# Altium integrated library AutoLidar_VIP_Spring25.IntLib: 50 symbols
Pins are listed as number, name and electrical type; pins without a type are passive.

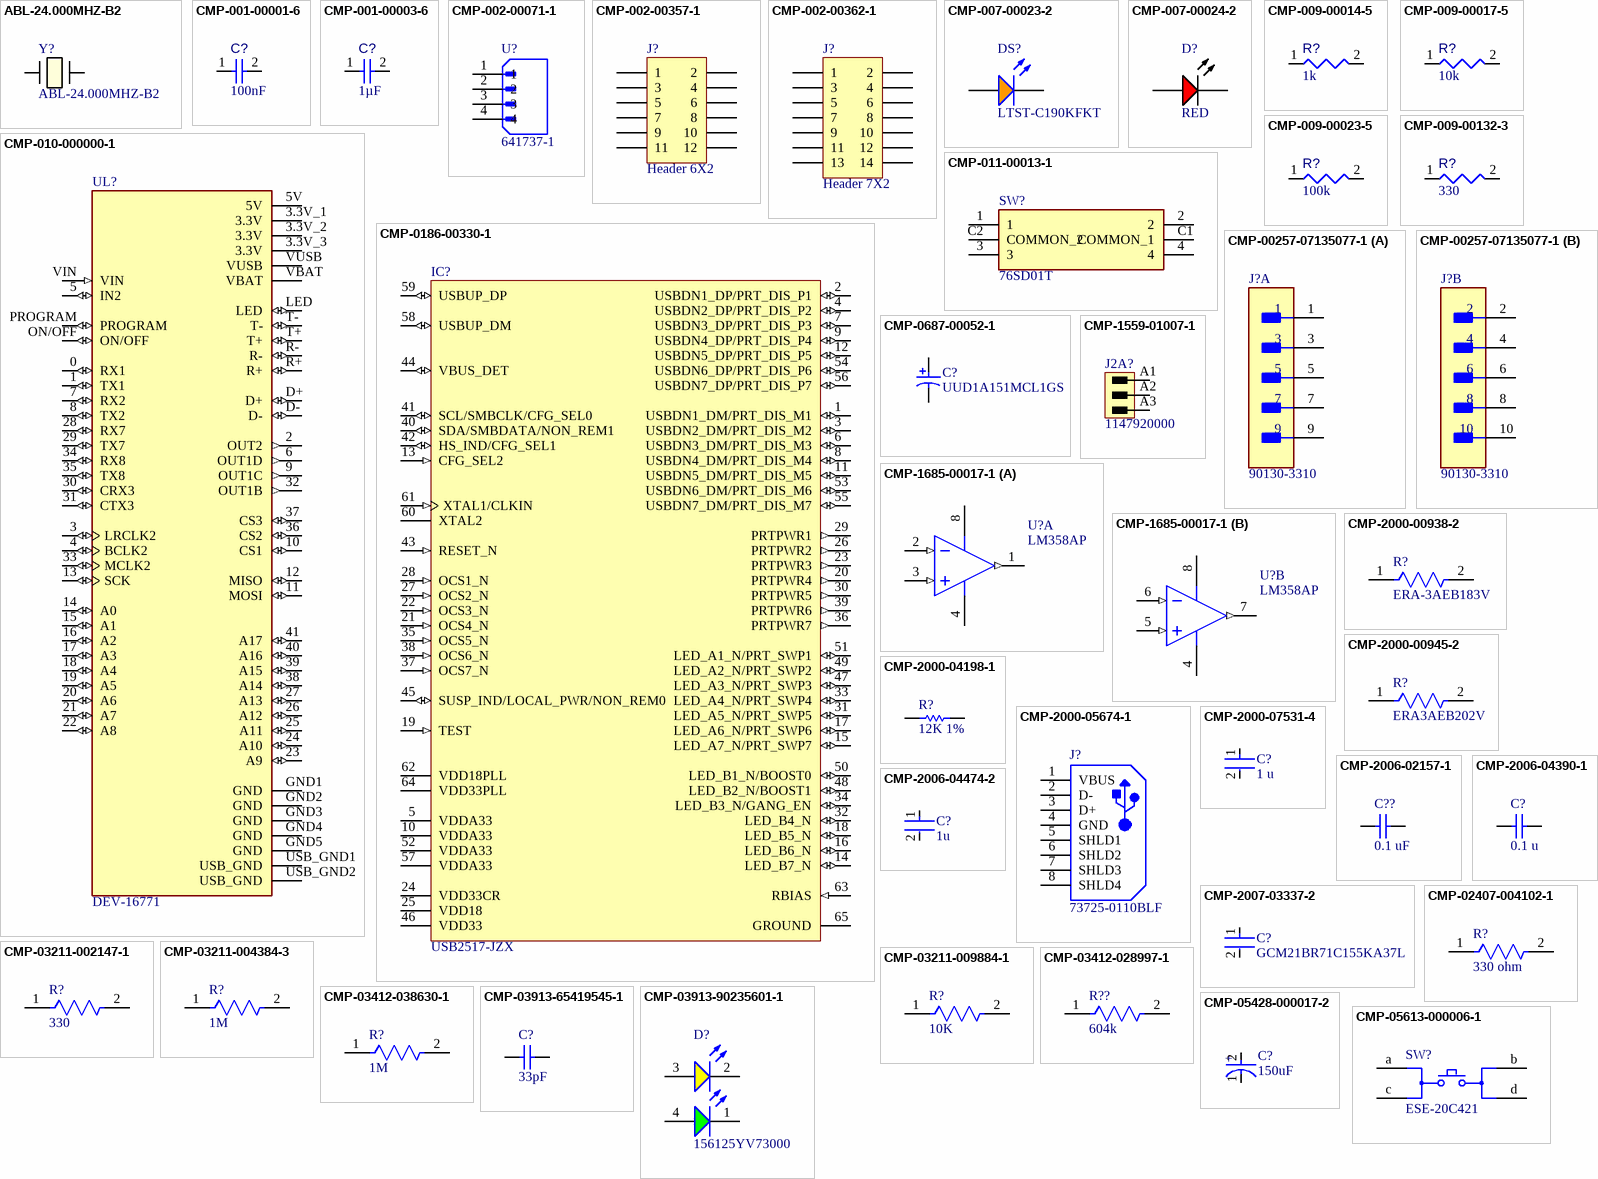
[diagram p0: symbols ABL-24.000MHZ-B2 to CMP-05613-000006-1]

## ABL-24.000MHZ-B2
designator Y?
No Description Available; Manufacturer_Name: Abracon; Copyright: Copyright (C) 2025 Ultra Librarian. All rights reserved.; Manufacturer_Part_Number: ABL-24.000MHZ-B2
footprint XTAL_ABL-24.000MHZ-B2_ABR
footprint XTAL_HC49P488W46L1150T500H350
pins: 1, 2

## CMP-001-00001-6
designator C?, comment value 100nF  (hidden comment: Capacitor 0.1 uF +/- 5% 16 V 0402)
Chip Capacitor, 0.1 uF, +/- 5%, 16 V, 0402 (1005 Metric); Manufacturer: KEMET; Manufacturer Part Number: C0402C104J4RACTU; Manufacturer: Murata; Manufacturer Part Number: GRM155R71C104JA88D; Capacitor Type: Ceramic; Voltage Rating: 16V; Max Operating Temperature: 125°C; Min Operating Temperature: -55°C; Case/Package: 0402; Mounting Technology: SM; Pins: 2; Tolerance: 5%; RoHS Compliant: True; Component Type: Capacitors
footprint CAPC1005X56X25LL10T15 (Chip Capacitor, 2-Leads, Body 1.10x0.60mm, IPC High Density)
footprint CAPC1005X56X25NL10T15 (Chip Capacitor, 2-Leads, Body 1.10x0.60mm, IPC Medium Density)
footprint CAPC1005X56X25ML10T15 (Chip Capacitor, 2-Leads, Body 1.10x0.60mm, IPC Low Density)
pins: 1, 2

## CMP-001-00003-6
designator C?, comment value 1µF  (hidden comment: Capacitor 1 uF +/- 10% 16 V 0603)
Chip Capacitor, 1 uF, +/- 10%, 16 V, 0603 (1608 Metric); Manufacturer: KYOCERA AVX; Manufacturer Part Number: 0603YC105KAT2A; Voltage Rating: 16V; Capacitor Type: Ceramic; Max Operating Temperature: 125°C; Pins: 2; Tolerance: 10%; Min Operating Temperature: -55°C; RoHS Compliant: True; Mounting Technology: SM; Case/Package: 0603; Component Type: Capacitors
footprint CAPC1608X94X35NL15T15 (Chip Capacitor, 2-Leads, Body 1.75x0.96mm, IPC Medium Density)
footprint CAPC1608X94X35ML15T15 (Chip Capacitor, 2-Leads, Body 1.75x0.96mm, IPC Low Density)
footprint CAPC1608X94X35LL15T15 (Chip Capacitor, 2-Leads, Body 1.75x0.96mm, IPC High Density)
pins: 1, 2

## CMP-002-00071-1
designator U?, comment 641737-1
Wire-To-Board Connector, Through Hole, Receptacle, 4, 5.08 mm, Tin Plated Contacts; MF: TE Connectivity; Number_of_Positions: 4; Product_Type: Header; Centerline_Pitch: 5.08 mm[.2 in]; Value: *; SnapEDA_Link: https://www.snapeda.com/parts/641737-1/TE+Connectivity+AMP+Connectors/view-part/?ref=snap; Pins: 4; Source: 641737-1.SchLib; Check_prices: https://www.snapeda.com/parts/641737-1/TE+Connectivity+AMP+Connectors/view-part/?ref=eda; Availability: In Stock; Case/Package: None; Component Type: Standard; Price: None; EU_RoHS_Compliance: Compliant; MP: 641737-1; Design Item ID: 641737-1; Purchase-URL: https://pricing.snapeda.com/search/part/641737-1/?ref=eda; Component Type: Connectors
footprint TE_641737-1
pins: 1, 2, 3, 4

## CMP-002-00357-1
designator J?, comment Header 6X2
Header, 6-Pin, Dual row; Signal Integrity: Connector; LatestRevisionDate: 17-Jul-2002; Design Item ID: Header 6X2; Component Type: Standard; Pins: 12; Source: Miscellaneous Connectors.SchLib; Publisher: Altium Limited; LatestRevisionNote: Re-released for DXP Platform.; Component Type: Connectors
footprint HDR2X6 (Connector; Header; 6x2 Position)
pins: 1, 2, 3, 4, 5, 6, 7, 8, 9, 10, 11, 12

## CMP-002-00362-1
designator J?, comment Header 7X2
Header, 7-Pin, Dual row; Signal Integrity: Connector; Publisher: Altium Limited; LatestRevisionDate: 17-Jul-2002; LatestRevisionNote: Re-released for DXP Platform.; Component Type: Standard; Source: Miscellaneous Connectors.SchLib; Pins: 14; Design Item ID: Header 7X2; Component Type: Connectors
footprint HDR2X7 (Connector; Header; 7x2 Position)
pins: 1, 2, 3, 4, 5, 6, 7, 8, 9, 10, 11, 12, 13, 14

## CMP-007-00023-2
designator DS?, comment LTST-C190KFKT
LED Uni-Color Orange, 75 mW, 30 mA, -35 to 85 degC, 2-Pin SMD, RoHS, Tape and Reel; Manufacturer: Lite-On; Power: 75mW; Luminous Intensity: 90mcd; Nominal Vf: 2V; Lens Style: Diffused; Forward Current: 20mA; Viewing Angle: 130degrees; Max Operating Temperature: 85°C; Manufacturer URL: http://www.us.liteon.com/; Package Description: 2-Pin Surface Mount Device, Body 1.6 x 0.8 mm; Package Quantity: 3000; Pins: 2; Min Operating Temperature: -55°C; Mounting Technology: SM; Colour: Orange; Packaging: TapeandReel; Case/Package: 0603; Datasheet Version: Rev. I, 09/2011; Illumination Colour: Orange; Datasheet URL: http://optoelectronics.liteon.com/upload/download/DS-22-99-0186/S_110_LTST-C190KFKT.pdf; Package Reference: C190KFKT; RoHS Compliant: True; Forward Voltage: 2V; Manufacturer Part Number: LTST-C190KFKT; Component Type: LED
footprint LTST-C190KFKT_V (SMD, 2-Leads, Body 1.6x0.8mm)
pins: 1 A, 2 K

## CMP-007-00024-2
designator D?, comment RED
LED Uni-Color Red, 62.5 mW, 25 mA, -30 to 85 degC, 2-Pin SMD, RoHS, Tape and Reel; Manufacturer: Lite-On; Manufacturer Part Number: LTST-C190KRKT; Power: 75mW; Forward Voltage: 2V; Luminous Intensity: 54mcd; Lens Style: Diffused; Viewing Angle: 130degrees; Forward Current: 20mA; Manufacturer URL: http://www.us.liteon.com/; Case/Package: 0603; Datasheet Version: Rev. F, 05/2013; Package Reference: C191KRKT; Datasheet URL: http://optoelectronics.liteon.com/upload/download/DS-22-99-0151/S_110_LTST-C190KRKT.pdf; Package Description: 2-Pin Surface Mount Device, Body 1.6 x 0.8 mm; Nominal Vf: 2V; Packaging: TapeandReel; RoHS Compliant: True; Pins: 2; Illumination Colour: Red; Colour: Red; Mounting Technology: SM; Package Quantity: 3000; Min Operating Temperature: -55°C; Max Operating Temperature: 85°C; Component Type: LED
footprint LTST-C191KRKT_V (SMD, 2-Leads, Body 1.6x0.8mm)
pins: 1 A, 2 K

## CMP-009-00014-5
designator R?, comment value 1k  (hidden comment: Resistor 1k +/-1% 0603 100 mW)
Chip Resistor, 1 KOhm, +/-1%, 0.1 W, -55 to 155 degC, 0603 (1608 Metric); Manufacturer: Yageo Group; Manufacturer Part Number: RC0603FR-071KL; Manufacturer: Panasonic; Manufacturer Part Number: ERJ-3EKF1001V; Manufacturer Part Number: RC0603FR-131KL; Voltage Rating: 50V; Power: 100mW; Tolerance: 1%; Mounting Technology: SM; Pins: 2; Case/Package: 0603; Min Operating Temperature: -55°C; RoHS Compliant: True; Max Operating Temperature: 155°C; Component Type: Resistors
footprint RESC1608X55X25ML10T15 (Chip Resistor, 2-Leads, Body 1.70x0.90mm, IPC Low Density)
footprint RESC1608X55X25NL10T15 (Chip Resistor, 2-Leads, Body 1.70x0.90mm, IPC Medium Density)
footprint RESC1608X55X25LL10T15 (Chip Resistor, 2-Leads, Body 1.70x0.90mm, IPC High Density)
pins: 1, 2
1 alternate drawing of the same symbol

## CMP-009-00017-5
designator R?, comment value 10k  (hidden comment: Resistor 10k +/-1% 0603 100 mW)
Chip Resistor, 10 KOhm, +/- 1%, 01 W, -55 to 155 degC, 0603 (1608 Metric); Manufacturer: Yageo Group; Manufacturer Part Number: RC0603FR-0710KL; Manufacturer: Panasonic; Manufacturer Part Number: ERJ-3EKF1002V; Manufacturer Part Number: RC0603FR-1310KL; Manufacturer: Vishay; Manufacturer Part Number: CRCW060310K0FKEA; Voltage Rating: 50V; Power: 100mW; RoHS Compliant: True; Min Operating Temperature: -55°C; Pins: 2; Case/Package: 0603; Mounting Technology: SM; Max Operating Temperature: 155°C; Tolerance: 1%; Component Type: Resistors
footprint RESC1608X55X25ML10T15 (Chip Resistor, 2-Leads, Body 1.70x0.90mm, IPC Low Density)
footprint RESC1608X55X25NL10T15 (Chip Resistor, 2-Leads, Body 1.70x0.90mm, IPC Medium Density)
footprint RESC1608X55X25LL10T15 (Chip Resistor, 2-Leads, Body 1.70x0.90mm, IPC High Density)
pins: 1, 2
1 alternate drawing of the same symbol

## CMP-009-00023-5
designator R?, comment value 100k  (hidden comment: Resistor 100k +/-1% 0603 100 mW)
Chip Resistor, 100 KOhm, +/- 1%, 0.1 W, -55 to 155 degC, 0603 (1608 Metric); Manufacturer: Yageo Group; Manufacturer Part Number: RC0603FR-07100KL; Manufacturer: Vishay; Manufacturer Part Number: CRCW0603-100KFKEA; Manufacturer Part Number: RC0603FR-13100KL; Manufacturer: Panasonic; Manufacturer Part Number: ERJ-3EKF1003V; Voltage Rating: 50V; Power: 100mW; Max Operating Temperature: 155°C; RoHS Compliant: True; Tolerance: 1%; Pins: 2; Case/Package: 0603; Mounting Technology: SM; Min Operating Temperature: -55°C; Component Type: Resistors
footprint RESC1608X55X25ML10T15 (Chip Resistor, 2-Leads, Body 1.70x0.90mm, IPC Low Density)
footprint RESC1608X55X25NL10T15 (Chip Resistor, 2-Leads, Body 1.70x0.90mm, IPC Medium Density)
footprint RESC1608X55X25LL10T15 (Chip Resistor, 2-Leads, Body 1.70x0.90mm, IPC High Density)
pins: 1, 2
1 alternate drawing of the same symbol

## CMP-009-00132-3
designator R?, comment value 330  (hidden comment: Resistor 330R +/-5 % 0402 63 mW)
Chip Resistor, 330 Ohms, +/-5 %, 63 mW, -55 to 155 degC, 0402; Manufacturer: Vishay; Manufacturer Part Number: CRCW0402330RJNEE; Manufacturer Part Number: CRCW0402330RJNED; Manufacturer Part Number: CRCW0402330RJNTD; Manufacturer: Panasonic; Manufacturer Part Number: ERJ-2GEJ331X; Manufacturer: Yageo Group; Manufacturer Part Number: RC0402JR-07330RL; Manufacturer Part Number: CRCW0402330RJNTE; Manufacturer: Bourns; Manufacturer Part Number: CR0402-JW-331GLF; Power: 63mW; Tolerance: 5%; Pins: 2; Max Operating Temperature: 155°C; Min Operating Temperature: -55°C; Case/Package: 0402; Component Type: Resistors
footprint RESC0402(1005)_L (Chip Resistor, Body 1.0x0.5mm, IPC High Density)
pins: 1, 2
1 alternate drawing of the same symbol

## CMP-010-000000-1
designator UL?, comment DEV-16771
RT1062 Teensy 4.1 series ARM® Cortex®-M7 MPU Embedded Evaluation Board; MF: SparkFun Electronics; MP: DEV-16771; Pin Count: 65; Check_prices: https://www.snapeda.com/parts/DEV-16771/SparkFun+Electronics/view-part/?ref=eda; Value: *; Component Type: Standard; SnapEDA_Link: https://www.snapeda.com/parts/DEV-16771/SparkFun+Electronics/view-part/?ref=snap; Source: DEV-16771.SchLib; Package: None; Design Item ID: DEV-16771
footprint MODULE_DEV-16771
pins: 0 RX1 (io), 1 TX1 (io), 2 OUT2 (out), 3 LRCLK2 (io), 3.3V_1 3.3V (power), 3.3V_2 3.3V (power), 3.3V_3 3.3V (power), 4 BCLK2 (io), 5 IN2 (io), 5V (power), 6 OUT1D (out), 7 RX2 (io), 8 TX2 (io), 9 OUT1C (out), 10 CS1 (io), 11 MOSI (io), 12 MISO (io), 13 SCK (io), 14 A0 (io), 15 A1 (io), 16 A2 (io), 17 A3 (io), 18 A4 (io), 19 A5 (io), 20 A6 (io), 21 A7 (io), 22 A8 (io), 23 A9 (io), 24 A10 (io), 25 A11 (io), 26 A12 (io), 27 A13 (io), 28 RX7 (io), 29 TX7 (io), 30 CRX3 (io), 31 CTX3 (io), 32 OUT1B (out), 33 MCLK2 (io), 34 RX8 (io), 35 TX8 (io), 36 CS2 (io), 37 CS3 (io), 38 A14 (io), 39 A15 (io), 40 A16 (io), 41 A17 (io), D+ (io), D- (io), GND1 GND (power), GND2 GND (power), GND3 GND (power), GND4 GND (power), GND5 GND (power), LED (io), ON/OFF (io), PROGRAM (io), R+ (io), R- (io), T+ (io), T- (io), USB_GND1 USB_GND (power), USB_GND2 USB_GND (power), VBAT, VIN (in), VUSB

## CMP-011-00013-1
designator SW?, comment 76SD01T
GRAYHILL - 76SD01T - SWITCH; Height: 7.49mm; Datasheet Link: https://datasheet.datasheetarchive.com/originals/distributors/Datasheets-3/DSA-44175.pdf; Source: SamacSys.SchLib; Mouser Part Number: 706-76SD01T; Manufacturer_Name: Grayhill; Arrow Price/Stock: https://www.arrow.com/en/products/76sd01t/grayhill?region=nac; Design Item ID: 76SD01T; Mouser Price/Stock: https://www.mouser.co.uk/ProductDetail/Grayhill/76SD01T?qs=ls7QRyWmRk5NxN1zsqWu%252BA%3D%3D; Arrow Part Number: 76SD01T; Manufacturer_Part_Number: 76SD01T; Component Type: Switches
footprint 76SD01T
pins: 1, 2, 3, 4, C1 COMMON_1, C2 COMMON_2

## CMP-0186-00330-1
designator IC?, comment USB2517-JZX
USB 2.0 Hi-Speed 7-Port Hub Controller, 3 to 3.6 V, 0 to 70 degC, 64-Pin QFN, RoHS, Tape and Reel; Manufacturer: Microchip; USB Speed: High Speed; MultiTRAK Tech: TRUE; Packing: TRAY; MGMT I/F: I2C; Op Voltage: 3.3 V; Upstream Port: USB 2.0; Voltage Regulator: 1.8 V; Downstream Ports: 7; ComponentLink1URL: http://www.microchip.com/; Mounting Technology: Surface Mount; ROHS: TRUE; ComponentLink3URL: http://ww1.microchip.com/downloads/en/DeviceDoc/2517.pdf; DatasheetVersion: Rev. 2.8; ComponentLink2URL: http://ww1.microchip.com/downloads/en/DeviceDoc/2517.pdf; PackageReference: QFN-64; Operating Temperature: 0 to 70 degC; PackageDescription: 64-Pin Plastic Quad Flat No Lead Package, Body 9 x 9 mm, Pitch 0.5 mm; PartNumber: USB2517-JZX; ComponentLink2Description: Datasheet; ComponentLink3Description: Package Specification; ComponentLink1Description: Manufacturer URL
footprint MCHP-QFN-64-4700X4700TP_L (QFN, 64-Leads, Body 9.1x9.1mm, Pitch 0.5mm, Thermal Pad 4.7x4.7mm, IPC High Density)
footprint MCHP-QFN-64-4700X4700TP_M (QFN, 64-Leads, Body 9.1x9.1mm, Pitch 0.5mm, Thermal Pad 4.7x4.7mm, IPC Low Density)
footprint MCHP-QFN-64-4700X4700TP_N (QFN, 64-Leads, Body 9.1x9.1mm, Pitch 0.5mm, Thermal Pad 4.7x4.7mm, IPC Medium Density)
pins: 1 USBDN1_DM/PRT_DIS_M1 (io), 2 USBDN1_DP/PRT_DIS_P1 (io), 3 USBDN2_DM/PRT_DIS_M2 (io), 4 USBDN2_DP/PRT_DIS_P2 (io), 5 VDDA33 (power) ""VDD Analog I/O.+3.3V Filtered analog PHY power which is shared between", 6 USBDN3_DM/PRT_DIS_M3 (io), 7 USBDN3_DP/PRT_DIS_P3 (io), 8 USBDN4_DM/PRT_DIS_M4 (io), 9 USBDN4_DP/PRT_DIS_P4 (io), 10 VDDA33 (power) ""VDD Analog I/O.+3.3V Filtered analog PHY power which is shared between", 11 USBDN5_DM/PRT_DIS_M5 (io), 12 USBDN5_DP/PRT_DIS_P5 (io), 13 CFG_SEL2 (in) "Configuration Programming Select", 14 LED_B7_N (io) "Enhanced Indicator LED for ports 7", 15 LED_A7_N/PRT_SWP7 (io), 16 LED_B6_N (io) "Enhanced Indicator LED for ports 6", 17 LED_A6_N/PRT_SWP6 (io), 18 LED_B5_N (io) "Enhanced Indicator LED for ports 5", 19 TEST (in) "TEST pin", 20 PRTPWR4 (out) "USB Power Enable", 21 OCS4_N (in) "Over-current Sense", 22 OCS3_N (in) "Over-current Sense", 23 PRTPWR3 (out) "USB Power Enable", 24 VDD33CR (power) ""VDDIO/VDD 3.3 Core Regulator Reference.+3.3V power supply for the Digital I/O. If the internal core", 25 VDD18 (power) ""VDD Core.+1.8V core power. This pin must have a 1.0uF (or greater) +/-20%", 26 PRTPWR2 (out) "USB Power Enable", 27 OCS2_N (in) "Over-current Sense", 28 OCS1_N (in) "Over-current Sense", 29 PRTPWR1 (out) "USB Power Enable", 30 PRTPWR5 (out) "USB Power Enable", 31 LED_A5_N/PRT_SWP5 (io), 32 LED_B4_N (io) "Enhanced Indicator LED for ports 4", 33 LED_A4_N/PRT_SWP4 (io), 34 LED_B3_N/GANG_EN (io), 35 OCS5_N (in) "Over-current Sense", 36 PRTPWR7 (out) "USB Power Enable", 37 OCS7_N (in) "Over-current Sense", 38 OCS6_N (in) "Over-current Sense", 39 PRTPWR6 (out) "USB Power Enable", 40 SDA/SMBDATA/NON_REM1 (io), 41 SCL/SMBCLK/CFG_SEL0 (io), 42 HS_IND/CFG_SEL1 (io), 43 RESET_N (in) "RESET Input", 44 VBUS_DET (io) "Detect Upstream VBUS Power", 45 SUSP_IND/LOCAL_PWR/NON_REM0 (io), 46 VDD33 (power) "VDD I/O.+3.3V Digital I/O power", 47 LED_A3_N/PRT_SWP3 (io), 48 LED_B2_N/BOOST1 (io), 49 LED_A2_N/PRT_SWP2 (io), 50 LED_B1_N/BOOST0 (io), 51 LED_A1_N/PRT_SWP1 (io), 52 VDDA33 (power) ""VDD Analog I/O.+3.3V Filtered analog PHY power which is shared between", 53 USBDN6_DM/PRT_DIS_M6 (io), 54 USBDN6_DP/PRT_DIS_P6 (io), 55 USBDN7_DM/PRT_DIS_M7 (io), 56 USBDN7_DP/PRT_DIS_P7 (io), 57 VDDA33 (power) ""VDD Analog I/O.+3.3V Filtered analog PHY power which is shared between", 58 USBUP_DM (io) "USB Bus Data", 59 USBUP_DP (io) "USB Bus Data", 60 XTAL2 "Crystal Output", 61 XTAL1/CLKIN (in) "Crystal Input/External Clock Input", 62 VDD18PLL (power) ""VDD PLL.+1.8V Filtered analog power for internal PLL. This pin must have", 63 RBIAS (in) "USB Transceiver Bias", 64 VDD33PLL (power) "VDD 3.3 PLL Regulator Reference.+3.3V power supply for the Digital I/O. If the internal PLL 1.8V regulator is enabled, then this pin acts as the regulator input.", 65 GROUND (power) "Ground"

## CMP-00257-07135077-1
designator J?, comment 90130-3310
90130-3310 Conn Shrouded Header (4 Sides) HDR 10 POS 2.54mm Solder RA Thru-Hole C-Grid III™ Frame; Manufacturer Lifecycle Status: ACTIVE; NexarPartId: 7135077; Glow Wire Compliant: Non-compliant; Voltage Rating (DC): 350V; Number of Circuits: 8; Max Voltage Rating (DC): 350.35kV; Current Rating: 3A; Number of Contacts: 10; Plating: Tin; Lead Pitch: 2.54mm; Pitch: 2.54mm; Contact Plating: Gold; Contact Material: Brass; Lifecycle Status: Production; Number of Rows: 2; Country of Origin: SK; RoHS: Compliant; Termination: Solder; Color: Black; Max Operating Temperature: 125°C; Voltage Rating (AC): 350V; Height: 10.05mm; Orientation: Right Angle; Mount: Through Hole; Voltage Rating: 350V; Number of Positions: 10; Min Operating Temperature: -55°C; Housing Material: Polyester; ComponentLink1Description: New link; ComponentLink1URL: *; ComponentLink2Description: New link 1; ComponentLink2URL: *
footprint FP-90130-3310-MFG (Conn Shrouded Header (4 Sides) HDR 10 POS 2.54mm Solder RA Thru-Hole C-Grid III™ Frame)
part A pins: 1, 3, 5, 7, 9
part B pins: 2, 4, 6, 8, 10

## CMP-0687-00052-1
designator C?, comment UUD1A151MCL1GS
Aluminum Electrolytic Capacitor, UD Series, Low Impedance, 150 uF, 10 V, + / - 20%, -55 to 105 degC, Chip Type, 6.3 x 5.8 mm D x L, Pb-Free, Reel; Manufacturer: Nichicon; Tolerance Rated Capacitance: -20 to 20%; Endurance Time: 2000 h; Rated Voltage: 10 V; Impedance: 0.44 Ohm; Rated Capacitance: 150 uF; Rated Ripple Current (at 100kHz): 230 mA; Packing: Dia382mm Reel; RoHS: TRUE; ComponentLink1URL: http://www.nichicon.co.jp/; Mounting Technology: Surface Mount; Length: 5.8 mm; ComponentLink3URL: http://products.nichicon.co.jp/en/pdf/XJA043/e-ud.pdf; ComponentLink1Description: Manufacturer URL; ComponentLink2URL: http://products.nichicon.co.jp/en/pdf/XJA043/e-ud.pdf; DatasheetVersion: 08/2012; ComponentLink3Description: Package Specification; ComponentLink2Description: Datasheet; PartNumber: UUD1A151MCL1GS; Diameter: 6.3 mm; PackageDescription: 2-Pin Surface Mount Device, Diameter 6.3 mm, Height 5.8 mm, Pitch 5.4 mm; PackageReference: CAPAE-D6.3H5.8
footprint NIC-CAPA2-6.3X5.8_V (Aluminum Electrolytic Capacitor, Diameter 6.3mm, Height 6.1mm, Pitch 5.4mm)
pins: 1, 2

## CMP-1559-01007-1
designator J2A?, comment 1147920000
OMNIMATE Signal - series BL/SL 5.08; Manufacturer: Weidmueller; Contact_surface: tinned; Outgoing_elbow: 180°; Rated_voltage_use_group_B_UL_1059: 300 V; Insulating_material: PA GF; Solder_pin_length_mm: 3.2 mm; Rated_voltage_for_surge_voltage_class_pollution_degree_II_2: 400 V; Side_termination_characteristic: Solder flange; Pitch_mm: 5.08 mm; No_of_poles: 3; Rated_current_use_group_B_UL_1059: 16 A; Short_text_for_material: SL 5.08HC/03/180LF 3.2SN OR BX; Pitch_inch: 0.2 inch; Contact_material: Cu-Leg; UL_94_flammability_rating: V-0; Mounting_onto_the_PCB: Solder connection; Packaging: Box; ComponentLink1URL: http://www.weidmueller.com/; Colour: Orange; PackageReference: SL_5_08HC_180LF_03; Qty: 100 PCS; ComponentLink1Description: Manufacturer URL; Revision: V1; ComponentLink2Description: URL Link1; ComponentLink2URL: http://catalog.weidmueller.com/catalog/Start.do?localeId=en&ObjectID=1147920000; PartNumber: 1147920000
footprint SL_5_08HC_180LF_03 (OMNIMATE Signal - Serie BL/SL 5.08  SL 5.08HC/03/180LF 3.2)
pins: A1, A2, A3

## CMP-1685-00017-1
designator U?, comment LM358AP
Dual Operational Amplifier, 3 to 32 V, 0 to 70 degC, 8-Pin PDIP (P), Pb-Free (RoHS), Tube; Case\Package: 0603; Luminous Intensity: 90 mcd; Viewing Angle: 130 degrees; Nominal Vf: 2 V; Lens Style: Diffused; Illumination Colour: Orange; Power Rating: 75 mW; Forward Current: 20 mA; Pins: 2; ComponentLink3Description: Package Specification; Packaging: Tape and Reel; Mount: Surface Mount; PackageReference: P0008A; Radiation Hardening: No; ComponentLink3URL: http://www.ti.com/lit/ml/mpdi001b/mpdi001b.pdf; Case Code (Metric): 1608; ComponentLink2Description: Datasheet; Max Operating Temperature: 85 degC; ComponentLink1Description: Manufacturer URL; RoHSCompliant: true; Width: 0.8 mm; Length: 1.6 mm; DatasheetVersion: SLOS068T, 04/2015; Min Operating Temperature: -55 degC; Height: 1.1 mm; Colour: Orange; ComponentLink2URL: http://www.ti.com/lit/ds/symlink/lm358a.pdf; PackageDescription: 8-Pin Double In-line Package, Body 9.59 x 6.35 mm, Pitch 2.54 mm; PackageVersion: 4040082/E, 04/2010; Forward Voltage: 2 V; Package Quantity: 3000; Case Code (Imperial): 0603; ComponentLink1URL: http://www.ti.com/
footprint P0008A (DIP, 8-Leads, Body 10.15x6.6mm, Pitch 2.54mm)
pins on every part: 4 GND (power), 8 VCC (power)
part A pins: 1 1OUT (out), 2 1IN- (in), 3 1IN+ (in)
part B pins: 5 2IN+ (in), 6 2IN- (in), 7 2OUT (out)

## CMP-2000-00938-2
designator R?, comment ERA-3AEB183V
RES SMD 18K OHM 0.1% 1/10W 0603; Power Rating: 100mW; Voltage Rating: 75V; Temperature Coefficient: 25ppm/°C; Resistance: 18kR; Military Standard: Not; Resistance Tolerance: 0.1%; Width: 0.8mm; Number of Terminations: 2; Max Operating Temperature: 155°C; Length: 1.6mm; REACH SVHC: No SVHC; Technology: METAL FILM; Min Operating Temperature: -55°C; Case/Package: 0603; Size Code: 0603; Lead Free: Lead Free; Number of Pins: 2; Features: Automotive AEC-Q200; Series: ERA-3A; Resistor Type: Thin Film; Contact Plating: Tin; Case Code (Metric): 1608; Termination: SMD/SMT; Mount: Surface Mount; Height: 0.45mm; Tolerance: 0.1%; Max Power Dissipation: 100mW; Case Code (Imperial): 0603; Depth: 0.8mm; Construction: Rectangular; Package Quantity: 1; Packaging: Tape and Reel; RoHS Compliant: Yes; Voltage Rating (DC): 75V; Radiation Hardening: No
footprint FP-ERA3A-IPC_A
footprint FP-ERA3A-IPC_B
footprint FP-ERA3A-IPC_C
footprint FP-ERA3A-MFG
pins: 1, 2

## CMP-2000-00945-2
designator R?, comment ERA3AEB202V
RES SMD 2K OHM 0.1% 1/10W 0603; Resistance: 2kR; Max Power Dissipation: 100mW; Voltage Rating (DC): 75V; Temperature Coefficient: 25ppm/°C; REACH SVHC: No SVHC; Number of Terminations: 2; RoHS Compliant: Yes; Case Code (Metric): 1608; Package Quantity: 5000; Width: 0.8mm; Mount: Surface Mount; Series: ERA-3A; Number of Pins: 2; Height: 0.45mm; Military Standard: Not; Packaging: Tape and Reel; Resistor Type: Thin Film; Lead Free: Lead Free; Construction: Rectangular; Max Operating Temperature: 155°C; Contact Plating: Tin; Termination: SMD/SMT; Technology: THIN FILM; Length: 1.6mm; Power Rating: 100mW; Resistance Tolerance: 0.1%; Working Voltage: 75V; Voltage Rating: 75V; Depth: 0.8mm; Case Code (Imperial): 0603; Radiation Hardening: No; Case/Package: 0603; Tolerance: 0.1%; Min Operating Temperature: -55°C
footprint FP-ERA3A-IPC_C
footprint FP-ERA3A-MFG
footprint FP-ERA3A-IPC_B
footprint FP-ERA3A-IPC_A
pins: 1, 2

## CMP-2000-04198-1
designator R?, comment 12K 1%
Manufacturer: Yageo; Part Number: RC0603FR-1312KL
footprint RESC1608X55X25LL10T15 (Chip Resistor, 2-Leads, Body 1.60x0.80mm, IPC High Density)
footprint RESC1608X55X25ML10T15 (Chip Resistor, 2-Leads, Body 1.60x0.80mm, IPC Low Density)
footprint RESC1608X55X25NL10T15 (Chip Resistor, 2-Leads, Body 1.60x0.80mm, IPC Medium Density)
pins: 1, 2
1 alternate drawing of the same symbol

## CMP-2000-05674-1
designator J?, comment 73725-0110BLF
USB-A 2.0 Receptacle Connector, RA, -40 to 85 degC, 4-Pin THD, RoHS, Tube; Number of Contacts: 4; Brand: FCI; Number of Ports: 1; Gender: Female; Connector Type: USBTypeAReceptacle,Upright; Mounting Angle: Right; Datasheet Version: Rev. AH, 09/2015; RoHS: Details; Shell Plating: Tin; Packaging: Tube; Mounting Style: ThroughHole; Standard: USB2.0; Features: Singlestack,nobackshield,withoutsensorcontact; Factory Pack Quantity: 30; Package Reference: 73725-0110BLF; Flammability Rating: UL94V-0; Product: USBTypeAConnectors; Series: USB; Number of Positions / Contacts: 4; Manufacturer: FCI; Contact Material: CopperAlloy; Datasheet URL: http://portal.fciconnect.com/Comergent//fci/drawing/73725.pdf; Product Category: USBConnectors; Mounting Technology: ThroughHole; Termination Style: SolderPin; Package Description: 4-Pin Throug Hole Device, Body 19.7 x 5.76 mm, Pitch 2 mm; Manufacturer URL: http://portal.fciconnect.com/; Color: White; Contact Plating: PalladiumNickelAlloy(GXT); Number of Positions: 4
footprint FCI-73725-0110BLF_V (THD, 4-Leads, Body 19.7x5.76mm, Pitch 2mm)
pins: 1 VBUS, 2 D-, 3 D+, 4 GND, 5 SHLD1, 6 SHLD2, 7 SHLD3, 8 SHLD4

## CMP-2000-07531-4
designator C?, comment 1 u
Ceramic Capacitor General Use 1uF ±10% 50V X7R 0603 / UMK107AB7105KA-T; Series: M; Width: 0.031inch; Mount: Surface Mount; Radiation Hardening: No; Voltage Rating (DC): 50V; Packaging: Tape and Reel; Termination: SMD/SMT; Depth: 0.8mm; Case Code (Metric): 1608; Case Code (Imperial): 0603; Height: 0.8mm; Voltage Rating: 50V; Package Quantity: 1; Halogen Free: Halogen Free; Dielectric: X7R; Min Operating Temperature: -55°C; Length: 1.6mm; Construction: Flat; Tolerance: 10%; Thickness: 0.037inch; Max Operating Temperature: 125°C; Case/Package: 0603; Capacitance: 1uF; RoHS Compliant: Yes
footprint FP-0603-L_1_6_0_15-W_0_8-IPC_C
footprint FP-0603-L_1_6_0_15-W_0_8-MFG
footprint FP-0603-L_1_6_0_15-W_0_8-IPC_A
footprint FP-0603-L_1_6_0_15-W_0_8-IPC_B
pins: 1, 2

## CMP-2006-02157-1
designator C??, comment 0.1 uF
Manufacturer: AVX Interconnect / Elco; Part Number: LD033C104KAB2A
footprint CAPC1608X90X35NL15T15 (Chip Capacitor, 2-Leads, Body 1.60x0.81mm, IPC Medium Density)
footprint CAPC1608X90X35ML15T15 (Chip Capacitor, 2-Leads, Body 1.60x0.81mm, IPC Low Density)
footprint CAPC1608X90X35LL15T15 (Chip Capacitor, 2-Leads, Body 1.60x0.81mm, IPC High Density)
pins: 1, 2
1 alternate drawing of the same symbol

## CMP-2006-04390-1
designator C?, comment 0.1 u
06035C104KAT4A; Manufacturer: AVX Interconnect / Elco; Part Number: 06035C104KAT4A
footprint CAPC1608X90X35LL15T15 (Chip Capacitor, 2-Leads, Body 1.60x0.81mm, IPC High Density)
footprint CAPC1608X90X35ML15T15 (Chip Capacitor, 2-Leads, Body 1.60x0.81mm, IPC Low Density)
footprint CAPC1608X90X35NL15T15 (Chip Capacitor, 2-Leads, Body 1.60x0.81mm, IPC Medium Density)
pins: 1, 2
1 alternate drawing of the same symbol

## CMP-2006-04474-2
designator C?, comment 1u
General Purpose Ceramic Capacitor, 0603, 1uF, 10%, X5R, 15%, 6.3V; Insulation Resistance: 100GR; Dissipation Factor: 5%; Package Quantity: 1; Mount: Surface Mount; Series: -; Number of Pins: 2; Length: 1.6mm; RoHS Compliant: Yes; Capacitance: 1uF; Depth: 0.81mm; Case Code (Imperial): 0603; Lead Free: Lead Free; Max Operating Temperature: 85°C; Case Code (Metric): 1608; Min Operating Temperature: -55°C; Contact Plating: Tin; Voltage: 6.3V; Tolerance: 10%; Width: 0.032inch; Voltage Rating (DC): 6.3V; Voltage Rating: 6.3V; Termination: SMD/SMT; Radiation Hardening: No; Case/Package: 0603; Thickness: 0.035inch; Height: 0.9mm; REACH SVHC: No SVHC; Packaging: Tape and Reel; Construction: Flat; Dielectric: X5R
footprint FP-0603-L_1_6_0_15-W_0_81-IPC_A
footprint FP-0603-L_1_6_0_15-W_0_81-IPC_C
footprint FP-0603-L_1_6_0_15-W_0_81-IPC_B
footprint FP-0603-L_1_6_0_15-W_0_81-MFG
pins: 1, 2

## CMP-2007-03337-2
designator C?, comment GCM21BR71C155KA37L
Ceramic Capacitor for Automotive 1.5uF ±10% 16VDC X7R 0805 Embossed T/R; Voltage Rating: 16V; Case Code (Metric): 2012; Length: 2mm; Package Quantity: 3000; Width: 0.049inch; Min Operating Temperature: -55°C; Depth: 1.25mm; Capacitance: 1.5uF; Radiation Hardening: No; Packaging: Tape and Reel; Max Operating Temperature: 125°C; Ratings: AEC-Q200; Case Code (Imperial): 0805; Dielectric: X7R; Mount: Surface Mount; Tolerance: 10%; Thickness: 0.055inch; Height: 1.25mm; Case/Package: 0805; Voltage Rating (DC): 16V; Termination: SMD/SMT
footprint FP-GCM21B-0_15-IPC_B
footprint FP-GCM21B-0_15-IPC_A
footprint FP-GCM21B-0_15-IPC_C
footprint FP-GCM21B-0_15-MFG
pins: 1, 2

## CMP-02407-004102-1
designator R?, comment 330 ohm
RES SMD 100 OHM 1% 1/8W 0603; Temperature Coefficient: 25ppm/°C; Power Rating: 100mW; Resistance: 330R; Tolerance: 0.5%; Military Standard: Not; Case/Package: 0603; Height: 0.45mm; Max Operating Temperature: 125°C; Radiation Hardening: No; Composition: Thin Film; Mount: Surface Mount; Packaging: Tape and Reel; Length: 1.55mm; Depth: 0.85mm; Min Operating Temperature: -55°C; Lead Free: Lead Free; Contact Plating: Tin
footprint FP-MCT0603-MFG
footprint FP-MCT0603-IPC_A
footprint FP-MCT0603-IPC_B
footprint FP-MCT0603-IPC_C
pins: 1, 2

## CMP-03211-002147-1
designator R?, comment 330
CRGCQ 0603 330R 5%; Manufacturer: TE Connectivity; Manufacturer Part Number: CRGCQ0603J330R; Temperature Coefficient: ±100ppm/°C; Power Rating: 0.1W; Value: 330Ω; Voltage Rating: 75V; Tolerance: 0.05; Device Class L1: Passive Components; ComponentLink2URL: https://www.te.com/commerce/DocumentDelivery/DDEController?Action=showdoc&DocId=Data+Sheet%7F1773204-3%7F1%7Fpdf%7FEnglish%7FENG_DS_1773204-3_1.pdf%7F4-2176339-581; ComponentLink2Description: Datasheet; RoHS: TRUE; Category: Res; Digikey Description: CRGCQ 0603 330R 5%; Lead Free: Yes; Octopart: https://octopart.com/crgcq0603j330r-te+connectivity-91018118; Mouser Description: Res General Purpose Thick Film 0603 330 Ohm 5% 1/10W ±100ppm/°C Molded Paper T/R; Height: 0.55mm; Composition: Thick Film; Series: CRGCQ; Package: CRGCQ0603; Device Class L3: Chip SMD Resistors; Resistance: 330Ω; Ambient Temperature Range High: +70°C; Temperature: -55°C to +155°C; Device Class L2: Resistors; Ipc Land Pattern Name: RESC16080X45; Temperature Range High: +155°C; Temperature Range Low: -55°C
footprint FP-CRGCQ0603-IPC_C
footprint FP-CRGCQ0603-IPC_B
footprint FP-CRGCQ0603-IPC_A
pins: 1, 2

## CMP-03211-004384-3
designator R?, comment 1M
RES 1M OHM 1% 1/4W 0603; Resistance: 1MR; Max Power Dissipation: 250mW; Temperature Coefficient: 100ppm/°C; Case Code (Imperial): 0603; Min Operating Temperature: -55°C; Max Operating Temperature: 155°C; RoHS Compliant: Yes; Packaging: Cut Tape; Case/Package: 0603; Tolerance: 1%; Resistor Type: Thick Film; Case Code (Metric): 1608; Number of Terminations: 2
footprint FP-CRGP0603-IPC_C
footprint FP-CRGP0603-IPC_B
footprint FP-CRGP0603-IPC_A
pins: 1, 2

## CMP-03211-009884-1
designator R?, comment 10K
CRGCQ 0603 10K 5%; Manufacturer Part Number: CRGCQ0603J10K; Manufacturer: TE Connectivity; Tolerance: 0.05; Power Rating: 0.1W; Resistance: 10KΩ; Voltage Rating: 75V; Value: 10KΩ; Temperature Coefficient: ±100ppm/°C; Composition: Thick Film; ComponentLink2URL: https://www.te.com/commerce/DocumentDelivery/DDEController?Action=showdoc&DocId=Data+Sheet%7F1773204-3%7F1%7Fpdf%7FEnglish%7FENG_DS_1773204-3_1.pdf%7F4-2176339-923; Device Class L1: Passive Components; Package: CRGCQ0603; Mouser Description: Res Thick Film 0603 10K Ohm 5% 0.1W(1/10W) ±100ppm/C Pad SMD Automotive T/R; Temperature Range High: +155°C; Category: Res; Device Class L2: Resistors; Height: 0.55mm; RoHS: TRUE; Lead Free: Yes; Ipc Land Pattern Name: RESC16080X45; Temperature: -55°C to +155°C; Series: CRGCQ; Digikey Description: CRGCQ 0603 10K 5%; Octopart: https://octopart.com/crgcq0603j10k-te+connectivity-91018097; Device Class L3: Chip SMD Resistors; Ambient Temperature Range High: +70°C; ComponentLink2Description: Datasheet; Temperature Range Low: -55°C
footprint FP-CRGCQ0603-IPC_C
footprint FP-CRGCQ0603-IPC_B
footprint FP-CRGCQ0603-IPC_A
pins: 1, 2

## CMP-03412-028997-1
designator R??, comment 604k
RES SMD 604K OHM 1% 1/10W 0603; Manufacturer Part Number: RT0603FRE07604KL; Manufacturer: Yageo; Power Rating: 0.1W; Temperature Coefficient: 50 ppm/°C; Voltage Rating: 75V; Tolerance: 0.01; Value: 604KΩ; Series: RT; Temperature Range High: +155°C; RoHS: TRUE; Ipc Land Pattern Name: RESC16080X45; Footprint Url: http://www.yageo.com/exep/pages/download/literatures/PYu-R_Mount_10.pdf; ComponentLink2Description: Datasheet; Device Class L3: Chip SMD Resistors; Digikey Description: RES SMD 604K OHM 1% 1/10W 0603; Device Class L1: Passive Components; ComponentLink2URL: http://www.yageo.com/documents/recent/PYu-RT_1-to-0.01_RoHS_L_9.pdf; Temperature Range Low: -55°C; Category: Res; Lead Free: Yes; Package: RT0603; Octopart: https://octopart.com/rt0603fre07604kl-yageo-26041741; Automotive: No; Composition: Thin Film; Height: 0.55mm; Temperature: -55°C to +155°C; Mouser Description: High Precision-High Stability Chip Resistor Thin Film 0603 604kOhm 1% Paper T/R; Resistance: 604KΩ; Device Class L2: Resistors
footprint FP-RT0603-MFG
footprint FP-RT0603-IPC_C
footprint FP-RT0603-IPC_B
footprint FP-RT0603-IPC_A
pins: 1, 2

## CMP-03412-038630-1
designator R?, comment 1M
RES 1MΩ 1.00% 0.1W 0603; Resistance: 1MR; Tolerance: 1%; Case/Package: 0603; RoHS Compliant: Yes
footprint FP-AC0603-IPC_A
footprint FP-AC0603-IPC_C
footprint FP-AC0603-MFG
footprint FP-AC0603-IPC_B
pins: 1, 2

## CMP-03913-65419545-1
designator C?, comment 33pF
885012006020 Ceramic Capacitor 33pF, 16VDC, 0603, ±5 %; NexarPartId: 65419545; Voltage Rating: 16V; Tolerance: 5%; Insulation Resistance: 10GΩ; Thickness: 863.6µm; Height: 800µm; Width: 800µm; Case Code (Imperial): 0603; Case Code (Metric): 1608; Case/Package: 0603; Mount: Surface Mount; Min Operating Temperature: -55°C; RoHS: Compliant; Packaging: Cut Tape; Capacitance: 33pF; Max Operating Temperature: 125°C; Length: 1.6mm; Voltage Rating (DC): 16V
footprint WCAP-CSGP_0603_L1.6W0.8H0.8_Reflow (Ceramic Capacitor 4.7pF, 10VDC, 0603, ±0.5 pF)
pins: 1, 2

## CMP-03913-90235601-1
designator D?, comment 156125YV73000
156125YV73000 Dual Color LED, Yellow/bright Green, Water Clear, 1.2mm; NexarPartId: 90235601; Forward Voltage: 2V; Luminous Intensity: 50mcd; Viewing Angle: 120°; Forward Current: 40mA; Max Reverse Voltage (DC): 5V; Peak Wavelength: 573nm; Dominant Wavelength: 571nm; Length: 3.2mm; Packaging: Tape and Reel; RoHS: Compliant; Width: 1.2mm; Min Operating Temperature: -40°C; Max Operating Temperature: 85°C; Height: 800µm
footprint WL-SBRW_1205_reverse mount (WL-SBRW SMT Bi-color Reverse mount waterclear)
pins: 1 K, 2 K, 3 A, 4 A

## CMP-05428-000017-2
designator C?, comment 150uF
Conductive Polymer Aluminum Solid Capacitors (OS-CON) 150uF ±20% 6.3V; Ripple Current: 3.52A; Leakage Current: 500uA; ESR (Equivalent Series Resistance): 12mR; Polarity: Polar; Dissipation Factor: 12%; Life (Hours): 2000Hour; Number of Pins: 6; Voltage Rating (DC): 6.3V; Lead Free: Lead Free; Height: 5.9mm; Case/Package: Radial; Package Quantity: 1500; Length: 5.9mm; Tolerance: 20%; Voltage: 6.3V; REACH SVHC: No SVHC; Mount: Surface Mount; Min Operating Temperature: -55°C; Ripple Current (AC): 3.52A; Packaging: Tape and Reel; Series: OS-CON™, SVPE; Max Operating Temperature: 105°C; Diameter: 5mm; Voltage Rating: 6.3V; Capacitance: 150uF; RoHS Compliant: Yes; Termination: SMD/SMT; Height - Seated (Max): 0.236inch
footprint FP-OS-CON-SMT-B6-MFG
pins: 1 C, 2 A
text: +

## CMP-05613-000006-1
designator SW?, comment ESE-20C421
SWITCH PUSH SPST-NO 0.1A 14V; Current Rating: 100mA; Switch Function: Off-Mom; Throw Configuration: SPST; Actuator Type: Lever; Operating Force: 4N; Actuator Length: 5.5mm; Series: ESE20C; Package Quantity: 1200; Radiation Hardening: No; Max Voltage Rating (DC): 14V; Voltage Rating (DC): 14V; Max Operating Temperature: 80°C; Lead Free: Lead Free; Mount: Through Hole; Termination: PC Pin; Packaging: Bulk; Min Operating Temperature: -30°C; RoHS Compliant: Yes; Contact Current Rating: 100mA; REACH SVHC: No SVHC; Orientation: Straight
footprint FP-ESE-20C421-MFG
pins: a, b, c, d

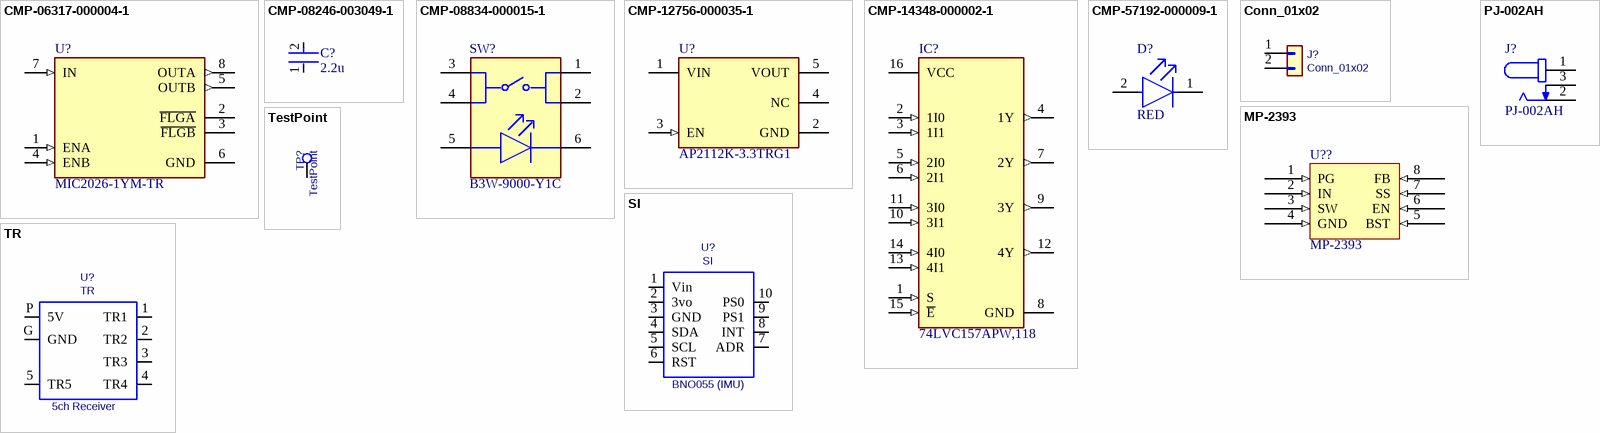
[diagram p1: symbols CMP-06317-000004-1 to TR]

## CMP-06317-000004-1
designator U?, comment MIC2026-1YM-TR
IC PWR SWITCH N-CHAN 1:2 8SOIC; On-State Resistance: 90mR; Fault Protection: Over Temperature; Interface: On/Off; Max Output Current: 500mA; Number of Outputs: 2; Output Configuration: High Side; Max Operating Temperature: 85°C; Case/Package: SOIC; Packaging: Cut Tape; Lead Free: Lead Free; REACH SVHC: No SVHC; Min Operating Temperature: -40°C; Number of Pins: 8
footprint FP-SOICN-8LD-PL-1-IPC_B
footprint FP-SOICN-8LD-PL-1-MFG
footprint FP-SOICN-8LD-PL-1-IPC_A
footprint FP-SOICN-8LD-PL-1-IPC_C
pins: 1 ENA (in), 2 ~{FLGA} (oc), 3 ~{FLGB} (oc), 4 ENB (in), 5 OUTB (out), 6 GND (power), 7 IN (in), 8 OUTA (out)

## CMP-08246-003049-1
designator C?, comment 2.2u
Multilayer Ceramic Capacitors 2.2μF ±10% 25V X5R SMD 0603; Capacitance: 2.2uF; Termination: SMD/SMT; Dielectric Material: Ceramic; REACH SVHC: No SVHC; Voltage Rating (DC): 25V; Voltage Rating: 25V; RoHS Compliant: Yes; Case Code (Imperial): 0603; Case/Package: 0603; Height: 0.8mm; Mount: Surface Mount; Min Operating Temperature: -55°C; Tolerance: 10%; Radiation Hardening: No; Dielectric: X5R; Depth: 0.8mm; Package Quantity: 4000; Length: 1.6mm; Weight: 7.1E-05oz; Resistor Type: Ceramic; Series: C; Thickness: 0.035inch; Width: 0.031inch; Case Code (Metric): 1608; Lead Free: Lead Free; Max Operating Temperature: 85°C; Packaging: Tape and Reel
footprint FP-C1608-080-0_1-MFG
footprint FP-C1608-080-0_1-IPC_A
footprint FP-C1608-080-0_1-IPC_C
footprint FP-C1608-080-0_1-IPC_B
pins: 1, 2

## CMP-08834-000015-1
designator SW?, comment B3W-9000-Y1C
SWITCH TACTILE SPST-NO 0.05A 24V; Illumination Color: Yellow; Current Rating: 50mA; Contact Resistance: 100mR; Switch Travel: 0.25mm; Actuator Color: Clear; Mechanical Life: 1000000Cycles; Throw Configuration: SPST; Switch Function: Off-Mom; Illumination Type: LED; Number of Poles: 1; Operating Force: 1.57N; Contact Plating: Silver; Packaging: Bulk; Length: 10mm; RoHS Compliant: Yes; Termination: PC Pin; Mount: Through Hole; Min Operating Temperature: -25°C; Width: 10mm; Max Voltage Rating (DC): 24V; Voltage Rating (DC): 24V; Max Operating Temperature: 70°C; Orientation: Straight; Contact Material: Silver; Package Quantity: 300; Height: 11mm; Series: B3W-9
footprint FP-B3W-9000-Y1C-MFG
pins: 1, 2, 3, 4, 5 A, 6 C

## CMP-12756-000035-1
designator U?, comment AP2112K-3.3TRG1
IC REG LINEAR 3.3V 600MA SOT25; Number of Regulators: 1; Output Type: Fixed; Polarity: Positive; Min Input Voltage: 2.5V; Max Input Voltage: 6V; Accuracy: 1.5%; Quiescent Current: 55uA; Dropout Voltage: 250mV; Min Operating Temperature: -40°C; Length: 3.1mm; Output Current: 600mA; Max Operating Temperature: 85°C; Package Quantity: 1; Output Voltage: 3.3V; Width: 1.7mm; Number of Outputs: 1; Packaging: Tape and Reel; Height: 1.3mm; Lead Free: Lead Free; Max Output Current: 600mA; Case/Package: SOT-23-5; Mount: Surface Mount; Number of Pins: 5
footprint FP-SOT25-IPC_A
footprint FP-SOT25-MFG
footprint FP-SOT25-IPC_C
footprint FP-SOT25-IPC_B
pins: 1 VIN (power), 2 GND (power), 3 EN (in), 4 NC, 5 VOUT (power)

## CMP-14348-000002-1
designator IC?, comment 74LVC157APW,118
IC QUAD 2-IN MUX 16-TSSOP
footprint FP-SOT403-1-IPC_B
footprint FP-SOT403-1-MFG
footprint FP-SOT403-1-IPC_A
footprint FP-SOT403-1-IPC_C
pins: 1 S (in), 2 1I0 (in), 3 1I1 (in), 4 1Y (out), 5 2I0 (in), 6 2I1 (in), 7 2Y (out), 8 GND (power), 9 3Y (out), 10 3I1 (in), 11 3I0 (in), 12 4Y (out), 13 4I1 (in), 14 4I0 (in), 15 ~{E} (in), 16 VCC (power)

## CMP-57192-000009-1
designator D?, comment RED
LED RED DIFFUSED SMD; Test Current: 20mA; Forward Voltage: 2V; Approvals: UL; Dominant Wavelength: 636nm; Viewing Angle: 140°; Lens Color: White; Luminous Intensity: 60mcd; Power Rating: 50mW; Number of LEDs: 1; Color: Red; Forward Current: 20mA; Moisture Sensitivity Level: 2; Case Code (Imperial): 0603; Lead Free: Lead Free; Lens Transparency: Diffused; Case Code (Metric): 1608; Height: 0.6mm; Max Operating Temperature: 85°C; Width: 0.8mm; Lens Style: Diffused; Illumination Color: Red; Wavelength: 636nm; REACH SVHC: No SVHC; Package Quantity: 1; RoHS Compliant: Yes; Case/Package: 0603; Number of Pins: 2; Packaging: Tape and Reel; Length: 1.6mm; Mount: Surface Mount; Min Operating Temperature: -25°C
footprint FP-SML-LX0603SIW-TR-MFG
pins: 1 C, 2 A

## Conn_01x02
designator J?
Footprint: Connector_PinHeader_2.54mm:PinHeader_1x02_P2.54mm_Vertical; Value: Conn_01x02
footprint PinHeader_1x02_P2.54mm_Vertical
footprint HDR1X2 (Connector; Header; 2 Position)
pins: 1 Pin_1, 2 Pin_2

## MP-2393
designator U??
https://www.monolithicpower.com/en/documentview/productdocument/index/version/2/document_type/Datasheet/lang/en/sku/MP2393GTL-Z/document_id/4270/
footprint MP-2393 (https://www.monolithicpower.com/en/documentview/productdocument/index/version/2/document_type/Datasheet/lang/en/sku/MP2393GTL-Z/document_id/4270/)
pins: 1 PG (in), 2 IN (in), 3 SW (in), 4 GND (in), 5 BST (in), 6 EN (in), 7 SS (in), 8 FB (in)

## PJ-002AH
designator J?
2.0 x 6.5 mm, 5.0 A, Horizontal, Through Hole, Dc Power Jack Connector; MF: Same Sky; SnapEDA_Link: https://www.snapeda.com/parts/PJ-002AH/Same+Sky/view-part/?ref=snap; Package: None; Value: *; MP: PJ-002AH; Check_prices: https://www.snapeda.com/parts/PJ-002AH/Same+Sky/view-part/?ref=eda
footprint CUI_PJ-002AH
pins: 1, 2, 3

## SI
designator U?
Value: SI; Footprint: Sprite:SI
footprint SI
footprint BNO055 Adafruit Breakout (Made based off KiCAD footprint used previously- 0.1" pitch and 0.7" between rows)
pins: 1 Vin, 2 3vo, 3 GND, 4 SDA, 5 SCL, 6 RST, 7 ADR, 8 INT, 9 PS1, 10 PS0
text: BNO055 (IMU)

## TestPoint
designator TP?
Value: TestPoint; Footprint: TestPoint:TestPoint_Plated_Hole_D2.0mm
footprint TestPoint_Plated_Hole_D2.0mm
footprint Test Point (Used same size as kicad - 3mm, 2mm hole)
pins: 1

## TR
designator U?
Value: TR; Footprint: Sprite:TR
footprint TR
pins: 1 TR1, 2 TR2, 3 TR3, 4 TR4, 5 TR5, G GND, P 5V
text: 5ch Receiver